# EAGLE library part CY7C199CN-15PXC (library CY8C5888LTI-LP097)
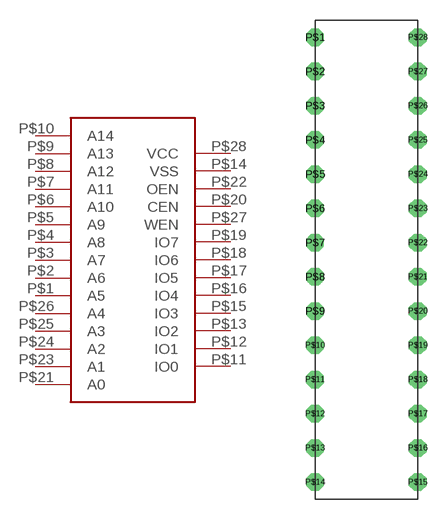
[diagram p2: symbol with the pads of DIP28; footprint DIP28]

Designator prefix -

## CY7C199CN-15PXC  [DIP28]
P$1  A5
P$2  A6
P$3  A7
P$4  A8
P$5  A9
P$6  A10
P$7  A11
P$8  A12
P$9  A13
P$10  A14
P$11  IO0
P$12  IO1
P$13  IO2
P$14  VSS
P$15  IO3
P$16  IO4
P$17  IO5
P$18  IO6
P$19  IO7
P$20  CEN
P$21  A0
P$22  OEN
P$23  A1
P$24  A2
P$25  A3
P$26  A4
P$27  WEN
P$28  VCC

## Footprint DIP28 (pad centres in mm)
drill 0.8 octagon: P$1 0,33.02; P$2 0,30.48; P$3 0,27.94; P$4 0,25.4; P$5 0,22.86; P$6 0,20.32; P$7 0,17.78; P$8 0,15.24; P$9 0,12.7; P$10 0,10.16; P$11 0,7.62; P$12 0,5.08; P$13 0,2.54; P$14 0,0; P$15 7.62,0; P$16 7.62,2.54; P$17 7.62,5.08; P$18 7.62,7.62; P$19 7.62,10.16; P$20 7.62,12.7; P$21 7.62,15.24; P$22 7.62,17.78; P$23 7.62,20.32; P$24 7.62,22.86; P$25 7.62,25.4; P$26 7.62,27.94; P$27 7.62,30.48; P$28 7.62,33.02